# Altium footprint library IC-SMD.PCBLIB: 298 footprints (part 17 of 19)
Each footprint in its own frame and in the unit in brackets; x right, y up, seen from the top. Pads: shape width x height; smd on the part's side, far side on the other; paste and mask are expansions set on the pad; w line width, h text height; cw(c..) or ccw(c..) is an arc to the next point about the centre after c.
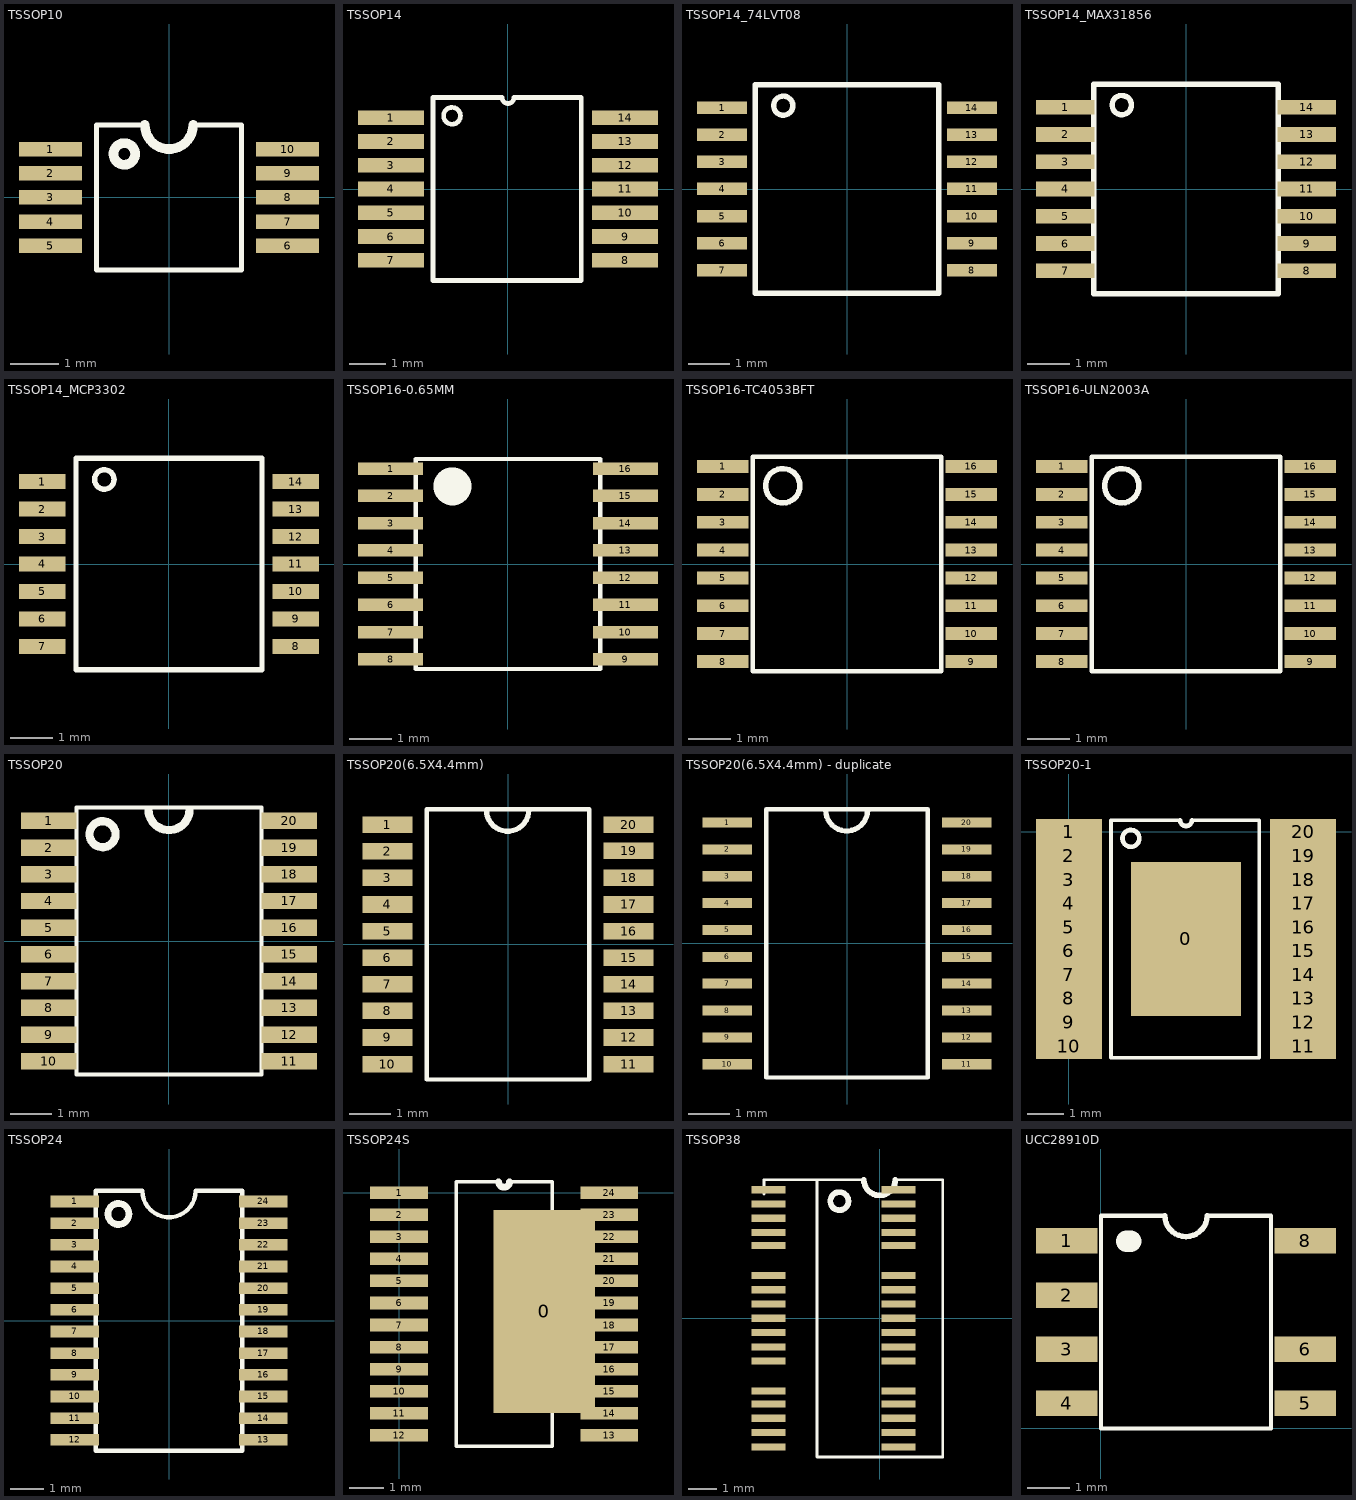
[diagram p16: the footprints below, top view; thin cyan lines are the x and y axes]

## TSSOP10 [mm]
pads (10):
  rect 1.3x0.3 smd: 1(-2.45,1) 2(-2.45,0.5) 3(-2.45,0) 4(-2.45,-0.5) 5(-2.45,-1) 6(2.45,-1) 7(2.45,-0.5) 8(2.45,0) 9(2.45,0.5) 10(2.45,1)
TopOverlay:
  circle w0.2: c-0.924,0.9 r0.224
  lines w0.1: -0.5,1.5 -1.5,1.5 -1.5,-1.5 1.5,-1.5 1.5,1.5 0.5,1.5
  lines w0.2: -0.5,1.5 ccw(c0,1.5) 0.5,1.5

## TSSOP14 [mm]
pads (14):
  rect 1.8x0.4 smd: 1(-3.2,1.95) 2(-3.2,1.3) 3(-3.2,0.65) 4(-3.2,0) 5(-3.2,-0.65) 6(-3.2,-1.3) 7(-3.2,-1.95) 8(3.2,-1.95) 9(3.2,-1.3) 10(3.2,-0.65) 11(3.2,0) 12(3.2,0.65) 13(3.2,1.3) 14(3.2,1.95)
TopOverlay:
  circle w0.127: c-1.53,2 r0.23
  lines w0.127: -2.05,-2.5 2,-2.5 2,2.5 0.162,2.5 cw(c0,2.5) -0.162,2.5 -2.05,2.5 -2.05,-2.5

## TSSOP14_74LVT08 [mm] "TSSOP14_74LVT08"
pads (14):
  rect 1.2x0.3 smd: 1(-3,1.95) 2(-3,1.3) 3(-3,0.65) 4(-3,0) 5(-3,-0.65) 6(-3,-1.3) 7(-3,-1.95) 8(3,-1.95) 9(3,-1.3) 10(3,-0.65) 11(3,0) 12(3,0.65) 13(3,1.3) 14(3,1.95)
TopOverlay:
  circle w0.127: c-1.53,2 r0.23
  lines w0.127: -2.2,-2.5 -2.2,2.5 2.2,2.5 2.2,-2.5 -2.2,-2.5

## TSSOP14_MAX31856 [mm] "TSSOP14_MAX31856"
pads (14):
  rect 1.4x0.35 smd: 1(-2.875,1.95) 2(-2.875,1.3) 3(-2.875,0.65) 4(-2.875,0) 5(-2.875,-0.65) 6(-2.875,-1.3) 7(-2.875,-1.95) 8(2.875,-1.95) 9(2.875,-1.3) 10(2.875,-0.65) 11(2.875,0) 12(2.875,0.65) 13(2.875,1.3) 14(2.875,1.95)
TopOverlay:
  circle w0.127: c-1.53,2 r0.23
  lines w0.127: -2.2,-2.5 -2.2,2.5 2.2,2.5 2.2,-2.5 -2.2,-2.5

## TSSOP14_MCP3302 [mm] "TSSOP14_MCP3302"
pads (14):
  rect 1.1x0.35 smd: 1(-3,1.95) 2(-3,1.3) 3(-3,0.65) 4(-3,0) 5(-3,-0.65) 6(-3,-1.3) 7(-3,-1.95) 8(3,-1.95) 9(3,-1.3) 10(3,-0.65) 11(3,0) 12(3,0.65) 13(3,1.3) 14(3,1.95)
TopOverlay:
  circle w0.127: c-1.53,2 r0.23
  lines w0.127: -2.2,-2.5 2.2,-2.5 2.2,2.5 -2.2,2.5 -2.2,-2.5

## TSSOP16-0.65MM [mm] "TSSOP16-0.65MM"
pads (16):
  rect 1.55x0.3 smd: 1(-2.8,2.275) 2(-2.8,1.625) 3(-2.8,0.975) 4(-2.8,0.325) 5(-2.8,-0.325) 6(-2.8,-0.975) 7(-2.8,-1.625) 8(-2.8,-2.275) 9(2.8,-2.275) 10(2.8,-1.625) 11(2.8,-0.975) 12(2.8,-0.325) 13(2.8,0.325) 14(2.8,0.975) 15(2.8,1.625) 16(2.8,2.275)
TopOverlay:
  circle w0.8: c-1.325,1.85 r0.05
  lines w0.1: -2.2,-2.5 2.2,-2.5 2.2,2.5 -2.2,2.5 -2.2,-2.5

## TSSOP16-TC4053BFT [mm] "TSSOP16-TC4053BFT"
pads (16):
  rect 1.2x0.3 smd: 1(-2.9,2.275) 2(-2.9,1.625) 3(-2.9,0.975) 4(-2.9,0.325) 5(-2.9,-0.325) 6(-2.9,-0.975) 7(-2.9,-1.625) 8(-2.9,-2.275) 9(2.9,-2.275) 10(2.9,-1.625) 11(2.9,-0.975) 12(2.9,-0.325) 13(2.9,0.325) 14(2.9,0.975) 15(2.9,1.625) 16(2.9,2.275)
TopOverlay:
  circle w0.127: c-1.5,1.825 r0.4
  lines w0.1: -2.2,-2.5 -2.2,2.5 2.2,2.5 2.2,-2.5 -2.2,-2.5

## TSSOP16-ULN2003A [mm] "TSSOP16-ULN2003A"
pads (16):
  rect 1.2x0.3 smd: 1(-2.9,2.275) 2(-2.9,1.625) 3(-2.9,0.975) 4(-2.9,0.325) 5(-2.9,-0.325) 6(-2.9,-0.975) 7(-2.9,-1.625) 8(-2.9,-2.275) 9(2.9,-2.275) 10(2.9,-1.625) 11(2.9,-0.975) 12(2.9,-0.325) 13(2.9,0.325) 14(2.9,0.975) 15(2.9,1.625) 16(2.9,2.275)
TopOverlay:
  circle w0.127: c-1.5,1.825 r0.4
  lines w0.1: -2.2,-2.5 -2.2,2.5 2.2,2.5 2.2,-2.5 -2.2,-2.5

## TSSOP20 [mm] "TSSOP20"
pads (20):
  rect 1.35x0.4 smd: 1(-2.925,2.925) 2(-2.925,2.275) 3(-2.925,1.625) 4(-2.925,0.975) 5(-2.925,0.325) 6(-2.925,-0.325) 7(-2.925,-0.975) 8(-2.925,-1.625) 9(-2.925,-2.275) 10(-2.925,-2.925) 11(2.925,-2.925) 12(2.925,-2.275) 13(2.925,-1.625) 14(2.925,-0.975) 15(2.925,-0.325) 16(2.925,0.325) 17(2.925,0.975) 18(2.925,1.625) 19(2.925,2.275) 20(2.925,2.925)
TopOverlay:
  circle w0.2: c-1.616,2.6 r0.316
  lines w0.1: -2.25,-3.25 2.25,-3.25 2.25,3.25 -2.25,3.25 -2.25,-3.25
  lines w0.2: -0.5,3.2 ccw(c0,3.2) 0.5,3.2

## TSSOP20(6.5X4.4mm) [mm] "TSSOP20(6.5X4.4mm)"
pads (20):
  rect 1.2x0.4 smd: 1(-2.9,2.88) 2(-2.9,2.24) 3(-2.9,1.6) 4(-2.9,0.96) 5(-2.9,0.32) 6(-2.9,-0.32) 7(-2.9,-0.96) 8(-2.9,-1.6) 9(-2.9,-2.24) 10(-2.9,-2.88) 11(2.9,-2.88) 12(2.9,-2.24) 13(2.9,-1.6) 14(2.9,-0.96) 15(2.9,-0.32) 16(2.9,0.32) 17(2.9,0.96) 18(2.9,1.6) 19(2.9,2.25) 20(2.9,2.88)
TopOverlay:
  lines w0.1: -1.956,-3.25 -1.956,3.25 1.956,3.25 1.956,-3.25 -1.956,-3.25
  lines w0.127: -0.517,3.23 ccw(c-0.008,3.23) 0.5,3.23

## TSSOP20(6.5X4.4mm) - duplicate [mm] "TSSOP20(6.5X4.4mm)"
pads (20):
  rect 1.2x0.245 smd: 1(-2.9,2.925) 2(-2.9,2.275) 3(-2.9,1.625) 4(-2.9,0.975) 5(-2.9,0.325) 6(-2.9,-0.325) 7(-2.9,-0.975) 8(-2.9,-1.625) 9(-2.9,-2.275) 10(-2.9,-2.925) 11(2.9,-2.925) 12(2.9,-2.275) 13(2.9,-1.625) 14(2.9,-0.975) 15(2.9,-0.325) 16(2.9,0.325) 17(2.9,0.975) 18(2.9,1.625) 19(2.9,2.275) 20(2.9,2.925)
TopOverlay:
  lines w0.1: -1.956,-3.25 -1.956,3.25 1.956,3.25 1.956,-3.25 -1.956,-3.25
  lines w0.127: -0.517,3.23 ccw(c-0.008,3.23) 0.5,3.23

## TSSOP20-1 [mm]
pads (21):
  rect 3x4.2 smd: 0(3.199,-2.924)
  rect 1.8x0.7 smd: 1(0,0) 2(0,-0.65) 3(0,-1.3) 4(0,-1.95) 5(0,-2.6) 6(0,-3.25) 7(0,-3.9) 8(0,-4.55) 9(0,-5.2) 10(0,-5.85) 11(6.4,-5.85) 12(6.4,-5.2) 13(6.4,-4.55) 14(6.4,-3.9) 15(6.4,-3.25) 16(6.4,-2.6) 17(6.4,-1.95) 18(6.4,-1.3) 19(6.4,-0.65) 20(6.4,0)
TopOverlay:
  circle w0.127: c1.695,-0.175 r0.23
  lines w0.1: 3.037,0.325 1.15,0.325 1.15,-6.175 5.2,-6.175 5.2,0.325 3.363,0.325
  lines w0.127: 3.037,0.325 ccw(c3.2,0.325) 3.362,0.325

## TSSOP24 [mm] "TSSOP24"
pads (24):
  rect 1.45x0.35 smd: 1(-2.825,3.575) 2(-2.825,2.925) 3(-2.825,2.275) 4(-2.825,1.625) 5(-2.825,0.975) 6(-2.825,0.325) 7(-2.825,-0.325) 8(-2.825,-0.975) 9(-2.825,-1.625) 10(-2.825,-2.275) 11(-2.825,-2.925) 12(-2.825,-3.575) 13(2.825,-3.575) 14(2.825,-2.925) 15(2.825,-2.275) 16(2.825,-1.625) 17(2.825,-0.975) 18(2.825,-0.325) 19(2.825,0.325) 20(2.825,0.975) 21(2.825,1.625) 22(2.825,2.275) 23(2.825,2.925) 24(2.825,3.575)
TopOverlay:
  circle w0.2: c-1.516,3.2 r0.316
  lines w0.127: -2.2,-3.9 -2.2,3.9 -0.8,3.9 ccw(c0,3.9) 0.8,3.9 2.2,3.9 2.2,-3.9 -2.2,-3.9

## TSSOP24S [mm]
pads (25):
  rect 3x6 smd: 0(4.28,-3.5)
  rect 1.7x0.37 smd: 1(0,0) 2(0,-0.65) 3(0,-1.3) 4(0,-1.95) 5(0,-2.6) 6(0,-3.25) 7(0,-3.9) 8(0,-4.55) 9(0,-5.2) 10(0,-5.85) 11(0,-6.5) 12(0,-7.15) 13(6.2,-7.15) 14(6.2,-6.5) 15(6.2,-5.85) 16(6.2,-5.2) 17(6.2,-4.55) 18(6.2,-3.9) 19(6.2,-3.25) 20(6.2,-2.6) 21(6.2,-1.95) 22(6.2,-1.3) 23(6.2,-0.65) 24(6.2,0)
TopOverlay:
  lines w0.1: 2.937,0.325 1.685,0.325 1.685,-7.475 4.515,-7.475 4.515,0.325 3.262,0.325
  lines w0.2: 2.937,0.325 ccw(c3.1,0.325) 3.262,0.325

## TSSOP38 [mm]
pads (38):
  rect 1.2x0.25 smd: 1(-3.9,4.5) 2(-3.9,4) 3(-3.9,3.5) 4(-3.9,3) 5(-3.9,2.55) 6(-3.9,1.5) 7(-3.9,1.5) 8(-3.9,1) 9(-3.9,0.5) 10(-3.9,0) 11(-3.9,-0.5) 12(-3.9,-1) 13(-3.9,-1.5) 14(-3.9,-1.5) 15(-3.9,-2.55) 16(-3.9,-3) 17(-3.9,-3.5) 18(-3.9,-4) 19(-3.9,-4.5) 20(0.65,-4.5) 21(0.65,-4) 22(0.65,-3.5) 23(0.65,-3) 24(0.65,-2.55) 25(0.65,-1.5) 26(0.65,-1.5) 27(0.65,-1) 28(0.65,-0.5) 29(0.65,0) 30(0.65,0.5) 31(0.65,1) 32(0.65,1.5) 33(0.65,1.5) 34(0.65,2.55) 35(0.65,3) 36(0.65,3.5) 37(0.65,4) 38(0.65,4.5)
TopOverlay:
  circle w0.2: c-1.416,4.1 r0.316
  lines w0.1: -4.05,4.35 -4.05,4.85 -2.2,4.85 ; -0.56,4.85 -2.2,4.85 ; 0.56,4.85 2.2,4.85 2.2,-4.85 -2.2,-4.85 -2.2,4.85
  lines w0.2: -0.56,4.85 ccw(c-0.01,4.85) 0.54,4.85

## UCC28910D [mm] "UCC28910D"
pads (7):
  rect 1.45x0.6 smd: 1(-0.8,4.405) 2(-0.8,3.135) 3(-0.8,1.865) 4(-0.8,0.595) 5(4.8,0.595) 6(4.8,1.865) 8(4.8,4.405)
TopOverlay:
  lines w0.1: 1.5,5 0,5 0,0 4,0 4,5 2.5,5
  lines w0.127: 1.5,5.002 ccw(c2,5.008) 2.5,5
  lines w0.5: 0.6,4.4 0.7,4.4